# Altium schematic symbol library kmilo17pet-TI_LDO_400_7500.SchLib: 1409 symbols (part 12 of 60)
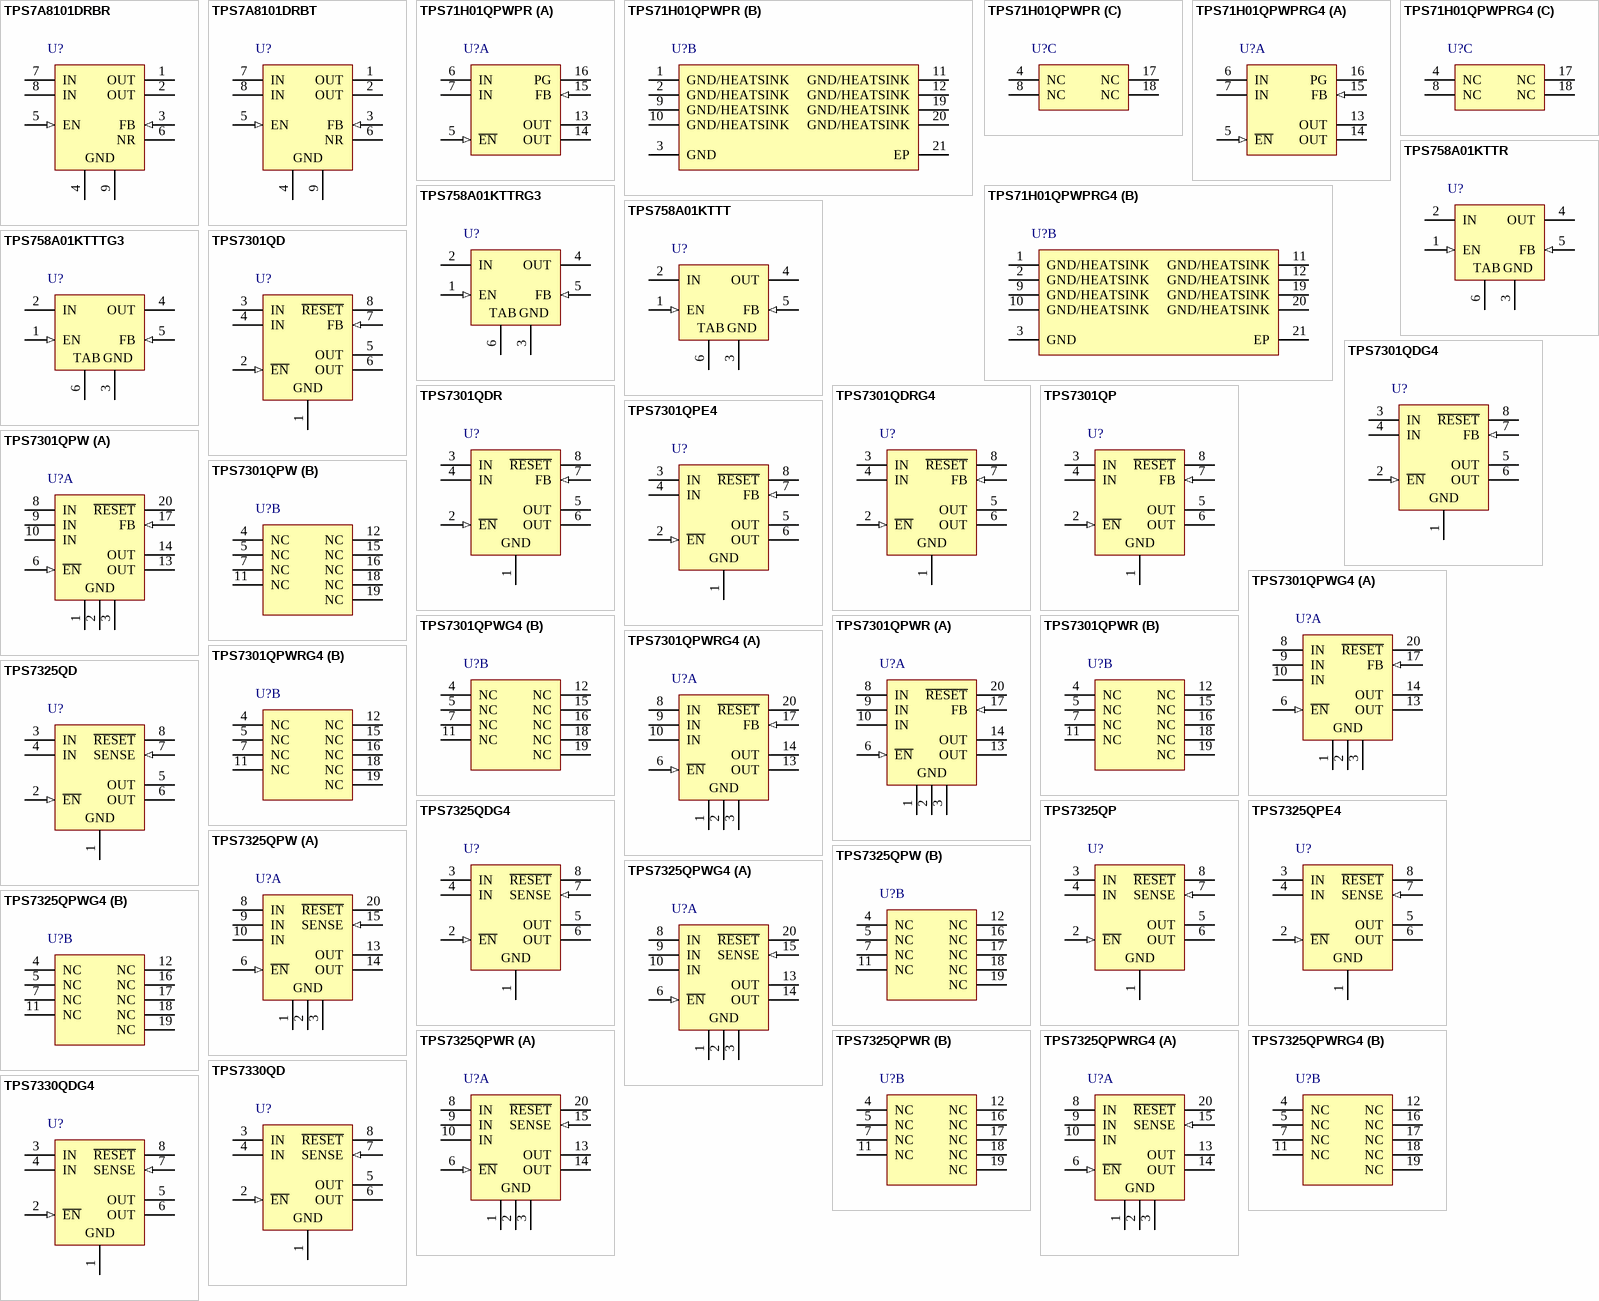
[diagram p61: symbols TPS7A8101DRBR to TPS7330QDG4]

## TPS758A01KTTT
designator U?
Single Output Fast Transient Response LDO, 3 A, Adjustable 1.24 to 5 V Output, 2.8 to 5.5 V Input, 5-pin DDPAK (KTT), -40 to 125 degC, Green (RoHS & no Sb/Br); Manufacturer: Texas Instruments; PartNumber: TPS758A01KTTT; Accuracy(%): 3; Iq(Typ)(mA): 0.12; Rating: Catalog; SubFamily: Single Channel LDO; Vdo(Typ)(mV): 150; Vin(Max)(V): 5.5; Vin(Min)(V): 2.8; Vout Adj(Max)(V): 5; Vout Adj(Min)(V): 1.24; DatasheetVersion: SLVS330F; PackageVersion: 4200577-3/F; PackageReference: KTT5; PackageDescription: 3-Pin Plastic Flange Mount, Body 10.16 x 10.34 mm, Pitch 1.7 mm; Supplier 1: Digi-Key; Supplier Part Number 1: TPS758A01KTTT-ND; Supplier 2: Newark; Supplier Part Number 2: 46M1173; Supplier 3: Mouser; Supplier Part Number 3: 595-TPS758A01KTTT; Eco-Plan: Green (RoHS & no Sb/Br); Iout(Max)(A): 3; Mounting Technology: Surface Mount; Code_JEDEC: TO-263; ComponentLink1Description: Manufacturer URL; ComponentLink1URL: http://www.ti.com/; ComponentLink2Description: Datasheet; ComponentLink2URL: http://www.ti.com/general/docs/lit/getliterature.tsp?genericPartNumber=TPS758A01&fileType=pdf; ComponentLink3Description: Package Specification; ComponentLink3URL: http://www.ti.com/litv/pdf/mpsf007e
footprint TI-KTT5_N (DPAK, 5-Leads, Body 10.16x8.925mm, Pitch 1.7mm, IPC Medium Density)
footprint TI-KTT5_L (DPAK, 5-Leads, Body 10.16x8.925mm, Pitch 1.7mm, IPC High Density)
footprint TI-KTT5_M (DPAK, 5-Leads, Body 10.16x8.925mm, Pitch 1.7mm, IPC Low Density)
pins: 1 EN (in) "Enable input", 2 IN (power) "Input supply", 3 GND (power) "Ground", 4 OUT (power) "Regulated output voltage; see Output Capacitor section for output capacitor requirements.", 5 FB (in) "Feedback voltage for adjustable device", 6 TAB (power)

## TPS758A01KTTTG3
designator U?
Single Output Fast Transient Response LDO, 3 A, Adjustable 1.24 to 5 V Output, 2.8 to 5.5 V Input, 5-pin DDPAK (KTT), -40 to 125 degC, Green (RoHS & no Sb/Br); Manufacturer: Texas Instruments; PartNumber: TPS758A01KTTTG3; Accuracy(%): 3; Iq(Typ)(mA): 0.12; Rating: Catalog; SubFamily: Single Channel LDO; Vdo(Typ)(mV): 150; Vin(Max)(V): 5.5; Vin(Min)(V): 2.8; Vout Adj(Max)(V): 5; Vout Adj(Min)(V): 1.24; DatasheetVersion: SLVS330F; PackageVersion: 4200577-3/F; PackageReference: KTT5; PackageDescription: 3-Pin Plastic Flange Mount, Body 10.16 x 10.34 mm, Pitch 1.7 mm; Supplier 1: Digi-Key; Supplier Part Number 1: TPS758A01KTTTG3-ND; Supplier 2: Mouser; Supplier Part Number 2: 595-TPS758A01KTTTG3; Eco-Plan: Green (RoHS & no Sb/Br); Iout(Max)(A): 3; Mounting Technology: Surface Mount; Code_JEDEC: TO-263; ComponentLink1Description: Manufacturer URL; ComponentLink1URL: http://www.ti.com/; ComponentLink2Description: Datasheet; ComponentLink2URL: http://www.ti.com/general/docs/lit/getliterature.tsp?genericPartNumber=TPS758A01&fileType=pdf; ComponentLink3Description: Package Specification; ComponentLink3URL: http://www.ti.com/litv/pdf/mpsf007e
footprint TI-KTT5_N (DPAK, 5-Leads, Body 10.16x8.925mm, Pitch 1.7mm, IPC Medium Density)
footprint TI-KTT5_L (DPAK, 5-Leads, Body 10.16x8.925mm, Pitch 1.7mm, IPC High Density)
footprint TI-KTT5_M (DPAK, 5-Leads, Body 10.16x8.925mm, Pitch 1.7mm, IPC Low Density)
pins: 1 EN (in) "Enable input", 2 IN (power) "Input supply", 3 GND (power) "Ground", 4 OUT (power) "Regulated output voltage; see Output Capacitor section for output capacitor requirements.", 5 FB (in) "Feedback voltage for adjustable device", 6 TAB (power)

## TPS7301QD
designator U?
Single Output LDO, 500 mA, Adjustable 1.2 to 9.7 V Output, 2.4 to 10 V Input, with Integrated SVS, 8-pin SOIC (D), -40 to 125 degC, Green (RoHS & no Sb/Br); Manufacturer: Texas Instruments; PartNumber: TPS7301QD; Iout(Max)(A): 0.5; Iq(Typ)(mA): 0.34; SubFamily: Single Channel LDO; Vdo(Typ)(mV): 270; Vin(Max)(V): 10; Vin(Min)(V): 2.4; Vout Adj(Max)(V): 9.7; Vout Adj(Min)(V): 1.2; DatasheetVersion: SLVS124F; PackageVersion: 4040047-3/M; PackageReference: D8; PackageDescription: 8-Pin Plastic Small Outline, Body 4.9 x 3.9 mm, Pitch 1.27 mm; Supplier 1: Digi-Key; Supplier Part Number 1: 296-1362-5-ND; Supplier 2: Farnell; Supplier Part Number 2: 8458294; Supplier 3: Newark; Supplier Part Number 3: 38K8786; Supplier 4: Newark; Supplier Part Number 4: 35K1337; Supplier 5: Mouser; Supplier Part Number 5: 595-TPS7301QD; Eco-Plan: Green (RoHS & no Sb/Br); Mounting Technology: Surface Mount; Code_JEDEC: MS-012; ComponentLink1Description: Manufacturer URL; ComponentLink1URL: http://www.ti.com/; ComponentLink2Description: Datasheet; ComponentLink2URL: http://www.ti.com/general/docs/lit/getliterature.tsp?genericPartNumber=TPS7301&fileType=pdf; ComponentLink3Description: Package Specification; ComponentLink3URL: http://www.ti.com/litv/pdf/msoi002j
footprint TI-D8_N (SOIC, 8-Leads, Body 4.9x3.9mm, Pitch 1.27mm, IPC Medium Density)
footprint TI-D8_L (SOIC, 8-Leads, Body 4.9x3.9mm, Pitch 1.27mm, IPC High Density)
footprint TI-D8_M (SOIC, 8-Leads, Body 4.9x3.9mm, Pitch 1.27mm, IPC Low Density)
pins: 1 GND (power), 2 ~{EN} (in), 3 IN (power), 4 IN (power), 5 OUT (power), 6 OUT (power), 7 FB (in), 8 ~{RESET} (hiz)

## TPS7301QDG4
designator U?
Single Output LDO, 500 mA, Adjustable 1.2 to 9.7 V Output, 2.4 to 10 V Input, with Integrated SVS, 8-pin SOIC (D), -40 to 125 degC, Green (RoHS & no Sb/Br); Manufacturer: Texas Instruments; PartNumber: TPS7301QDG4; Iout(Max)(A): 0.5; Iq(Typ)(mA): 0.34; SubFamily: Single Channel LDO; Vdo(Typ)(mV): 270; Vin(Max)(V): 10; Vin(Min)(V): 2.4; Vout Adj(Max)(V): 9.7; Vout Adj(Min)(V): 1.2; DatasheetVersion: SLVS124F; PackageVersion: 4040047-3/M; PackageReference: D8; PackageDescription: 8-Pin Plastic Small Outline, Body 4.9 x 3.9 mm, Pitch 1.27 mm; Supplier 1: Digi-Key; Supplier Part Number 1: TPS7301QDG4-ND; Supplier 2: Newark; Supplier Part Number 2: 54K1795; Supplier 3: Mouser; Supplier Part Number 3: 595-TPS7301QDG4; Eco-Plan: Green (RoHS & no Sb/Br); Mounting Technology: Surface Mount; Code_JEDEC: MS-012; ComponentLink1Description: Manufacturer URL; ComponentLink1URL: http://www.ti.com/; ComponentLink2Description: Datasheet; ComponentLink2URL: http://www.ti.com/general/docs/lit/getliterature.tsp?genericPartNumber=TPS7301&fileType=pdf; ComponentLink3Description: Package Specification; ComponentLink3URL: http://www.ti.com/litv/pdf/msoi002j
footprint TI-D8_N (SOIC, 8-Leads, Body 4.9x3.9mm, Pitch 1.27mm, IPC Medium Density)
footprint TI-D8_L (SOIC, 8-Leads, Body 4.9x3.9mm, Pitch 1.27mm, IPC High Density)
footprint TI-D8_M (SOIC, 8-Leads, Body 4.9x3.9mm, Pitch 1.27mm, IPC Low Density)
pins: 1 GND (power), 2 ~{EN} (in), 3 IN (power), 4 IN (power), 5 OUT (power), 6 OUT (power), 7 FB (in), 8 ~{RESET} (hiz)

## TPS7301QDR
designator U?
Single Output LDO, 500 mA, Adjustable 1.2 to 9.7 V Output, 2.4 to 10 V Input, with Integrated SVS, 8-pin SOIC (D), -40 to 125 degC, Green (RoHS & no Sb/Br); Manufacturer: Texas Instruments; PartNumber: TPS7301QDR; Iout(Max)(A): 0.5; Iq(Typ)(mA): 0.34; SubFamily: Single Channel LDO; Vdo(Typ)(mV): 270; Vin(Max)(V): 10; Vin(Min)(V): 2.4; Vout Adj(Max)(V): 9.7; Vout Adj(Min)(V): 1.2; DatasheetVersion: SLVS124F; PackageVersion: 4040047-3/M; PackageReference: D8; PackageDescription: 8-Pin Plastic Small Outline, Body 4.9 x 3.9 mm, Pitch 1.27 mm; Supplier 1: Digi-Key; Supplier Part Number 1: 296-1362-2-ND; Supplier 2: Digi-Key; Supplier Part Number 2: 296-1362-1-ND; Supplier 3: Digi-Key; Supplier Part Number 3: 296-1362-6-ND; Supplier 4: Newark; Supplier Part Number 4: 35C2221; Supplier 5: Mouser; Supplier Part Number 5: 595-TPS7301QDR; Eco-Plan: Green (RoHS & no Sb/Br); Mounting Technology: Surface Mount; Code_JEDEC: MS-012; ComponentLink1Description: Manufacturer URL; ComponentLink1URL: http://www.ti.com/; ComponentLink2Description: Datasheet; ComponentLink2URL: http://www.ti.com/general/docs/lit/getliterature.tsp?genericPartNumber=TPS7301&fileType=pdf; ComponentLink3Description: Package Specification; ComponentLink3URL: http://www.ti.com/litv/pdf/msoi002j
footprint TI-D8_N (SOIC, 8-Leads, Body 4.9x3.9mm, Pitch 1.27mm, IPC Medium Density)
footprint TI-D8_L (SOIC, 8-Leads, Body 4.9x3.9mm, Pitch 1.27mm, IPC High Density)
footprint TI-D8_M (SOIC, 8-Leads, Body 4.9x3.9mm, Pitch 1.27mm, IPC Low Density)
pins: 1 GND (power), 2 ~{EN} (in), 3 IN (power), 4 IN (power), 5 OUT (power), 6 OUT (power), 7 FB (in), 8 ~{RESET} (hiz)

## TPS7301QDRG4
designator U?
Single Output LDO, 500 mA, Adjustable 1.2 to 9.7 V Output, 2.4 to 10 V Input, with Integrated SVS, 8-pin SOIC (D), -40 to 125 degC, Green (RoHS & no Sb/Br); Manufacturer: Texas Instruments; PartNumber: TPS7301QDRG4; Iout(Max)(A): 0.5; Iq(Typ)(mA): 0.34; SubFamily: Single Channel LDO; Vdo(Typ)(mV): 270; Vin(Max)(V): 10; Vin(Min)(V): 2.4; Vout Adj(Max)(V): 9.7; Vout Adj(Min)(V): 1.2; DatasheetVersion: SLVS124F; PackageVersion: 4040047-3/M; PackageReference: D8; PackageDescription: 8-Pin Plastic Small Outline, Body 4.9 x 3.9 mm, Pitch 1.27 mm; Supplier 1: Digi-Key; Supplier Part Number 1: TPS7301QDRG4-ND; Supplier 2: Newark; Supplier Part Number 2: 54K1796; Supplier 3: Mouser; Supplier Part Number 3: 595-TPS7301QDRG4; Eco-Plan: Green (RoHS & no Sb/Br); Mounting Technology: Surface Mount; Code_JEDEC: MS-012; ComponentLink1Description: Manufacturer URL; ComponentLink1URL: http://www.ti.com/; ComponentLink2Description: Datasheet; ComponentLink2URL: http://www.ti.com/general/docs/lit/getliterature.tsp?genericPartNumber=TPS7301&fileType=pdf; ComponentLink3Description: Package Specification; ComponentLink3URL: http://www.ti.com/litv/pdf/msoi002j
footprint TI-D8_N (SOIC, 8-Leads, Body 4.9x3.9mm, Pitch 1.27mm, IPC Medium Density)
footprint TI-D8_L (SOIC, 8-Leads, Body 4.9x3.9mm, Pitch 1.27mm, IPC High Density)
footprint TI-D8_M (SOIC, 8-Leads, Body 4.9x3.9mm, Pitch 1.27mm, IPC Low Density)
pins: 1 GND (power), 2 ~{EN} (in), 3 IN (power), 4 IN (power), 5 OUT (power), 6 OUT (power), 7 FB (in), 8 ~{RESET} (hiz)

## TPS7301QP
designator U?
Single Output LDO, 500 mA, Adjustable 1.2 to 9.7 V Output, 2.4 to 10 V Input, with Integrated SVS, 8-pin PDIP (P), -40 to 125 degC, Pb-Free (RoHS); Manufacturer: Texas Instruments; PartNumber: TPS7301QP; Iout(Max)(A): 0.5; Iq(Typ)(mA): 0.34; SubFamily: Single Channel LDO; Vdo(Typ)(mV): 270; Vin(Max)(V): 10; Vin(Min)(V): 2.4; Vout Adj(Max)(V): 9.7; Vout Adj(Min)(V): 1.2; DatasheetVersion: SLVS124F; PackageVersion: 4040082/E; PackageReference: P8; PackageDescription: 8-Pin Plastic In-Line, Body 9.59 x 6.35 mm, 2.54 mm Pitch; Supplier 1: Digi-Key; Supplier Part Number 1: 296-2660-5-ND; Supplier 2: Newark; Supplier Part Number 2: 35K1338; Supplier 3: Mouser; Supplier Part Number 3: 595-TPS7301QP; Eco-Plan: Pb-Free (RoHS); Mounting Technology: Through Hole; Code_JEDEC: MS-001; ComponentLink1Description: Manufacturer URL; ComponentLink1URL: http://www.ti.com/; ComponentLink2Description: Datasheet; ComponentLink2URL: http://www.ti.com/general/docs/lit/getliterature.tsp?genericPartNumber=TPS7301&fileType=pdf; ComponentLink3Description: Package Specification; ComponentLink3URL: http://www.ti.com/litv/pdf/mpdi001b
footprint TI-P8 (DIP, 8-Leads, Body 9.59x6.35mm, Pitch 2.54mm)
pins: 1 GND (power), 2 ~{EN} (in), 3 IN (power), 4 IN (power), 5 OUT (power), 6 OUT (power), 7 FB (in), 8 ~{RESET} (hiz)

## TPS7301QPE4
designator U?
Single Output LDO, 500 mA, Adjustable 1.2 to 9.7 V Output, 2.4 to 10 V Input, with Integrated SVS, 8-pin PDIP (P), -40 to 125 degC, Pb-Free (RoHS); Manufacturer: Texas Instruments; PartNumber: TPS7301QPE4; Iout(Max)(A): 0.5; Iq(Typ)(mA): 0.34; SubFamily: Single Channel LDO; Vdo(Typ)(mV): 270; Vin(Max)(V): 10; Vin(Min)(V): 2.4; Vout Adj(Max)(V): 9.7; Vout Adj(Min)(V): 1.2; DatasheetVersion: SLVS124F; PackageVersion: 4040082/E; PackageReference: P8; PackageDescription: 8-Pin Plastic In-Line, Body 9.59 x 6.35 mm, 2.54 mm Pitch; Supplier 1: Digi-Key; Supplier Part Number 1: TPS7301QPE4-ND; Supplier 2: Mouser; Supplier Part Number 2: 595-TPS7301QPE4; Eco-Plan: Pb-Free (RoHS); Mounting Technology: Through Hole; Code_JEDEC: MS-001; ComponentLink1Description: Manufacturer URL; ComponentLink1URL: http://www.ti.com/; ComponentLink2Description: Datasheet; ComponentLink2URL: http://www.ti.com/general/docs/lit/getliterature.tsp?genericPartNumber=TPS7301&fileType=pdf; ComponentLink3Description: Package Specification; ComponentLink3URL: http://www.ti.com/litv/pdf/mpdi001b
footprint TI-P8 (DIP, 8-Leads, Body 9.59x6.35mm, Pitch 2.54mm)
pins: 1 GND (power), 2 ~{EN} (in), 3 IN (power), 4 IN (power), 5 OUT (power), 6 OUT (power), 7 FB (in), 8 ~{RESET} (hiz)

## TPS7301QPW
designator U?
Single Output LDO, 500 mA, Adjustable 1.2 to 9.7 V Output, 2.4 to 10 V Input, with Integrated SVS, 20-pin TSSOP (PW), -40 to 125 degC, Green (RoHS & no Sb/Br); Manufacturer: Texas Instruments; PartNumber: TPS7301QPW; Iout(Max)(A): 0.5; Iq(Typ)(mA): 0.34; SubFamily: Single Channel LDO; Vdo(Typ)(mV): 270; Vin(Max)(V): 10; Vin(Min)(V): 2.4; Vout Adj(Max)(V): 9.7; Vout Adj(Min)(V): 1.2; DatasheetVersion: SLVS124F; PackageVersion: 4040064-5/G; PackageReference: PW20; PackageDescription: 20-Pin Plastic Small Outline, Body 6.5 x 4.4 mm, 0.65 mm Pitch; Supplier 1: Digi-Key; Supplier Part Number 1: 296-8061-5-ND; Supplier 2: Mouser; Supplier Part Number 2: 595-TPS7301QPW; Eco-Plan: Green (RoHS & no Sb/Br); Mounting Technology: Surface Mount; Code_JEDEC: MO-153; ComponentLink1Description: Manufacturer URL; ComponentLink1URL: http://www.ti.com/; ComponentLink2Description: Datasheet; ComponentLink2URL: http://www.ti.com/general/docs/lit/getliterature.tsp?genericPartNumber=TPS7301&fileType=pdf; ComponentLink3Description: Package Specification; ComponentLink3URL: http://www.ti.com.cn/cn/lit/ml/mpds362/mpds362.pdf
footprint TI-PW20_N (SOP, 20-Leads, Body 6.5x4.4mm, Pitch 0.65mm, IPC Medium Density)
footprint TI-PW20_L (SOP, 20-Leads, Body 6.5x4.4mm, Pitch 0.65mm, IPC High Density)
footprint TI-PW20_M (SOP, 20-Leads, Body 6.5x4.4mm, Pitch 0.65mm, IPC Low Density)
part A pins: 1 GND (power), 2 GND (power), 3 GND (power), 6 ~{EN} (in), 8 IN (power), 9 IN (power), 10 IN (power), 13 OUT (power), 14 OUT (power), 17 FB (in), 20 ~{RESET} (hiz)
part B pins: 4 NC, 5 NC, 7 NC, 11 NC, 12 NC, 15 NC, 16 NC, 18 NC, 19 NC

## TPS7301QPWG4
designator U?
Single Output LDO, 500 mA, Adjustable 1.2 to 9.7 V Output, 2.4 to 10 V Input, with Integrated SVS, 20-pin TSSOP (PW), -40 to 125 degC, Green (RoHS & no Sb/Br); Manufacturer: Texas Instruments; PartNumber: TPS7301QPWG4; Iout(Max)(A): 0.5; Iq(Typ)(mA): 0.34; SubFamily: Single Channel LDO; Vdo(Typ)(mV): 270; Vin(Max)(V): 10; Vin(Min)(V): 2.4; Vout Adj(Max)(V): 9.7; Vout Adj(Min)(V): 1.2; DatasheetVersion: SLVS124F; PackageVersion: 4040064-5/G; PackageReference: PW20; PackageDescription: 20-Pin Plastic Small Outline, Body 6.5 x 4.4 mm, 0.65 mm Pitch; Supplier 1: Digi-Key; Supplier Part Number 1: TPS7301QPWG4-ND; Supplier 2: Mouser; Supplier Part Number 2: 595-TPS7301QPWG4; Eco-Plan: Green (RoHS & no Sb/Br); Mounting Technology: Surface Mount; Code_JEDEC: MO-153; ComponentLink1Description: Manufacturer URL; ComponentLink1URL: http://www.ti.com/; ComponentLink2Description: Datasheet; ComponentLink2URL: http://www.ti.com/general/docs/lit/getliterature.tsp?genericPartNumber=TPS7301&fileType=pdf; ComponentLink3Description: Package Specification; ComponentLink3URL: http://www.ti.com.cn/cn/lit/ml/mpds362/mpds362.pdf
footprint TI-PW20_N (SOP, 20-Leads, Body 6.5x4.4mm, Pitch 0.65mm, IPC Medium Density)
footprint TI-PW20_L (SOP, 20-Leads, Body 6.5x4.4mm, Pitch 0.65mm, IPC High Density)
footprint TI-PW20_M (SOP, 20-Leads, Body 6.5x4.4mm, Pitch 0.65mm, IPC Low Density)
part A pins: 1 GND (power), 2 GND (power), 3 GND (power), 6 ~{EN} (in), 8 IN (power), 9 IN (power), 10 IN (power), 13 OUT (power), 14 OUT (power), 17 FB (in), 20 ~{RESET} (hiz)
part B pins: 4 NC, 5 NC, 7 NC, 11 NC, 12 NC, 15 NC, 16 NC, 18 NC, 19 NC

## TPS7301QPWR
designator U?
Single Output LDO, 500 mA, Adjustable 1.2 to 9.7 V Output, 2.4 to 10 V Input, with Integrated SVS, 20-pin TSSOP (PW), -40 to 125 degC, Green (RoHS & no Sb/Br); Manufacturer: Texas Instruments; PartNumber: TPS7301QPWR; Iout(Max)(A): 0.5; Iq(Typ)(mA): 0.34; SubFamily: Single Channel LDO; Vdo(Typ)(mV): 270; Vin(Max)(V): 10; Vin(Min)(V): 2.4; Vout Adj(Max)(V): 9.7; Vout Adj(Min)(V): 1.2; DatasheetVersion: SLVS124F; PackageVersion: 4040064-5/G; PackageReference: PW20; PackageDescription: 20-Pin Plastic Small Outline, Body 6.5 x 4.4 mm, 0.65 mm Pitch; Supplier 1: Digi-Key; Supplier Part Number 1: TPS7301QPWR-ND; Supplier 2: Mouser; Supplier Part Number 2: 595-TPS7301QPWR; Eco-Plan: Green (RoHS & no Sb/Br); Mounting Technology: Surface Mount; Code_JEDEC: MO-153; ComponentLink1Description: Manufacturer URL; ComponentLink1URL: http://www.ti.com/; ComponentLink2Description: Datasheet; ComponentLink2URL: http://www.ti.com/general/docs/lit/getliterature.tsp?genericPartNumber=TPS7301&fileType=pdf; ComponentLink3Description: Package Specification; ComponentLink3URL: http://www.ti.com.cn/cn/lit/ml/mpds362/mpds362.pdf
footprint TI-PW20_N (SOP, 20-Leads, Body 6.5x4.4mm, Pitch 0.65mm, IPC Medium Density)
footprint TI-PW20_L (SOP, 20-Leads, Body 6.5x4.4mm, Pitch 0.65mm, IPC High Density)
footprint TI-PW20_M (SOP, 20-Leads, Body 6.5x4.4mm, Pitch 0.65mm, IPC Low Density)
part A pins: 1 GND (power), 2 GND (power), 3 GND (power), 6 ~{EN} (in), 8 IN (power), 9 IN (power), 10 IN (power), 13 OUT (power), 14 OUT (power), 17 FB (in), 20 ~{RESET} (hiz)
part B pins: 4 NC, 5 NC, 7 NC, 11 NC, 12 NC, 15 NC, 16 NC, 18 NC, 19 NC

## TPS7301QPWRG4
designator U?
Single Output LDO, 500 mA, Adjustable 1.2 to 9.7 V Output, 2.4 to 10 V Input, with Integrated SVS, 20-pin TSSOP (PW), -40 to 125 degC, Green (RoHS & no Sb/Br); Manufacturer: Texas Instruments; PartNumber: TPS7301QPWRG4; Iout(Max)(A): 0.5; Iq(Typ)(mA): 0.34; SubFamily: Single Channel LDO; Vdo(Typ)(mV): 270; Vin(Max)(V): 10; Vin(Min)(V): 2.4; Vout Adj(Max)(V): 9.7; Vout Adj(Min)(V): 1.2; DatasheetVersion: SLVS124F; PackageVersion: 4040064-5/G; PackageReference: PW20; PackageDescription: 20-Pin Plastic Small Outline, Body 6.5 x 4.4 mm, 0.65 mm Pitch; Supplier 1: Digi-Key; Supplier Part Number 1: TPS7301QPWRG4-ND; Supplier 2: Mouser; Supplier Part Number 2: 595-TPS7301QPWRG4; Eco-Plan: Green (RoHS & no Sb/Br); Mounting Technology: Surface Mount; Code_JEDEC: MO-153; ComponentLink1Description: Manufacturer URL; ComponentLink1URL: http://www.ti.com/; ComponentLink2Description: Datasheet; ComponentLink2URL: http://www.ti.com/general/docs/lit/getliterature.tsp?genericPartNumber=TPS7301&fileType=pdf; ComponentLink3Description: Package Specification; ComponentLink3URL: http://www.ti.com.cn/cn/lit/ml/mpds362/mpds362.pdf
footprint TI-PW20_N (SOP, 20-Leads, Body 6.5x4.4mm, Pitch 0.65mm, IPC Medium Density)
footprint TI-PW20_L (SOP, 20-Leads, Body 6.5x4.4mm, Pitch 0.65mm, IPC High Density)
footprint TI-PW20_M (SOP, 20-Leads, Body 6.5x4.4mm, Pitch 0.65mm, IPC Low Density)
part A pins: 1 GND (power), 2 GND (power), 3 GND (power), 6 ~{EN} (in), 8 IN (power), 9 IN (power), 10 IN (power), 13 OUT (power), 14 OUT (power), 17 FB (in), 20 ~{RESET} (hiz)
part B pins: 4 NC, 5 NC, 7 NC, 11 NC, 12 NC, 15 NC, 16 NC, 18 NC, 19 NC

## TPS7325QD
designator U?
Single Output LDO, 500 mA, Fixed 2.5 V Output, 3.1 to 10 V Input, with Integrated SVS, 8-pin SOIC (D), -40 to 125 degC, Green (RoHS & no Sb/Br); Manufacturer: Texas Instruments; PartNumber: TPS7325QD; Fixed Output Options(V): 2.5; Iout(Max)(A): 0.5; Iq(Typ)(mA): 0.3; SubFamily: Single Channel LDO; Vdo(Typ)(mV): 270; Vin(Max)(V): 10; Vin(Min)(V): 3.1; DatasheetVersion: SLVS124F; PackageVersion: 4040047-3/M; PackageReference: D8; PackageDescription: 8-Pin Plastic Small Outline, Body 4.9 x 3.9 mm, Pitch 1.27 mm; Supplier 1: Digi-Key; Supplier Part Number 1: 296-2661-5-ND; Supplier 2: Mouser; Supplier Part Number 2: 595-TPS7325QD; Eco-Plan: Green (RoHS & no Sb/Br); Vout Adj(Max)(V): 2.5; Vout Adj(Min)(V): 2.5; Mounting Technology: Surface Mount; Code_JEDEC: MS-012; ComponentLink1Description: Manufacturer URL; ComponentLink1URL: http://www.ti.com/; ComponentLink2Description: Datasheet; ComponentLink2URL: http://www.ti.com/general/docs/lit/getliterature.tsp?genericPartNumber=TPS7325&fileType=pdf; ComponentLink3Description: Package Specification; ComponentLink3URL: http://www.ti.com/litv/pdf/msoi002j
footprint TI-D8_N (SOIC, 8-Leads, Body 4.9x3.9mm, Pitch 1.27mm, IPC Medium Density)
footprint TI-D8_L (SOIC, 8-Leads, Body 4.9x3.9mm, Pitch 1.27mm, IPC High Density)
footprint TI-D8_M (SOIC, 8-Leads, Body 4.9x3.9mm, Pitch 1.27mm, IPC Low Density)
pins: 1 GND (power), 2 ~{EN} (in), 3 IN (power), 4 IN (power), 5 OUT (power), 6 OUT (power), 7 SENSE (in), 8 ~{RESET} (hiz)

## TPS7325QDG4
designator U?
Single Output LDO, 500 mA, Fixed 2.5 V Output, 3.1 to 10 V Input, with Integrated SVS, 8-pin SOIC (D), -40 to 125 degC, Green (RoHS & no Sb/Br); Manufacturer: Texas Instruments; PartNumber: TPS7325QDG4; Fixed Output Options(V): 2.5; Iout(Max)(A): 0.5; Iq(Typ)(mA): 0.3; SubFamily: Single Channel LDO; Vdo(Typ)(mV): 270; Vin(Max)(V): 10; Vin(Min)(V): 3.1; DatasheetVersion: SLVS124F; PackageVersion: 4040047-3/M; PackageReference: D8; PackageDescription: 8-Pin Plastic Small Outline, Body 4.9 x 3.9 mm, Pitch 1.27 mm; Supplier 1: Digi-Key; Supplier Part Number 1: TPS7325QDG4-ND; Supplier 2: Newark; Supplier Part Number 2: 27M1105; Supplier 3: Mouser; Supplier Part Number 3: 595-TPS7325QDG4; Eco-Plan: Green (RoHS & no Sb/Br); Vout Adj(Max)(V): 2.5; Vout Adj(Min)(V): 2.5; Mounting Technology: Surface Mount; Code_JEDEC: MS-012; ComponentLink1Description: Manufacturer URL; ComponentLink1URL: http://www.ti.com/; ComponentLink2Description: Datasheet; ComponentLink2URL: http://www.ti.com/general/docs/lit/getliterature.tsp?genericPartNumber=TPS7325&fileType=pdf; ComponentLink3Description: Package Specification; ComponentLink3URL: http://www.ti.com/litv/pdf/msoi002j
footprint TI-D8_N (SOIC, 8-Leads, Body 4.9x3.9mm, Pitch 1.27mm, IPC Medium Density)
footprint TI-D8_L (SOIC, 8-Leads, Body 4.9x3.9mm, Pitch 1.27mm, IPC High Density)
footprint TI-D8_M (SOIC, 8-Leads, Body 4.9x3.9mm, Pitch 1.27mm, IPC Low Density)
pins: 1 GND (power), 2 ~{EN} (in), 3 IN (power), 4 IN (power), 5 OUT (power), 6 OUT (power), 7 SENSE (in), 8 ~{RESET} (hiz)

## TPS7325QP
designator U?
Single Output LDO, 500 mA, Fixed 2.5 V Output, 3.1 to 10 V Input, with Integrated SVS, 8-pin PDIP (P), -40 to 125 degC, Pb-Free (RoHS); Manufacturer: Texas Instruments; PartNumber: TPS7325QP; Fixed Output Options(V): 2.5; Iout(Max)(A): 0.5; Iq(Typ)(mA): 0.3; SubFamily: Single Channel LDO; Vdo(Typ)(mV): 270; Vin(Max)(V): 10; Vin(Min)(V): 3.1; DatasheetVersion: SLVS124F; PackageVersion: 4040082/E; PackageReference: P8; PackageDescription: 8-Pin Plastic In-Line, Body 9.59 x 6.35 mm, 2.54 mm Pitch; Supplier 1: Digi-Key; Supplier Part Number 1: 296-8062-5-ND; Supplier 2: Mouser; Supplier Part Number 2: 595-TPS7325QP; Eco-Plan: Pb-Free (RoHS); Vout Adj(Max)(V): 2.5; Vout Adj(Min)(V): 2.5; Mounting Technology: Through Hole; Code_JEDEC: MS-001; ComponentLink1Description: Manufacturer URL; ComponentLink1URL: http://www.ti.com/; ComponentLink2Description: Datasheet; ComponentLink2URL: http://www.ti.com/general/docs/lit/getliterature.tsp?genericPartNumber=TPS7325&fileType=pdf; ComponentLink3Description: Package Specification; ComponentLink3URL: http://www.ti.com/litv/pdf/mpdi001b
footprint TI-P8 (DIP, 8-Leads, Body 9.59x6.35mm, Pitch 2.54mm)
pins: 1 GND (power), 2 ~{EN} (in), 3 IN (power), 4 IN (power), 5 OUT (power), 6 OUT (power), 7 SENSE (in), 8 ~{RESET} (hiz)

## TPS7325QPE4
designator U?
Single Output LDO, 500 mA, Fixed 2.5 V Output, 3.1 to 10 V Input, with Integrated SVS, 8-pin PDIP (P), -40 to 125 degC, Pb-Free (RoHS); Manufacturer: Texas Instruments; PartNumber: TPS7325QPE4; Fixed Output Options(V): 2.5; Iout(Max)(A): 0.5; Iq(Typ)(mA): 0.3; SubFamily: Single Channel LDO; Vdo(Typ)(mV): 270; Vin(Max)(V): 10; Vin(Min)(V): 3.1; DatasheetVersion: SLVS124F; PackageVersion: 4040082/E; PackageReference: P8; PackageDescription: 8-Pin Plastic In-Line, Body 9.59 x 6.35 mm, 2.54 mm Pitch; Supplier 1: Digi-Key; Supplier Part Number 1: TPS7325QPE4-ND; Supplier 2: Mouser; Supplier Part Number 2: 595-TPS7325QPE4; Eco-Plan: Pb-Free (RoHS); Vout Adj(Max)(V): 2.5; Vout Adj(Min)(V): 2.5; Mounting Technology: Through Hole; Code_JEDEC: MS-001; ComponentLink1Description: Manufacturer URL; ComponentLink1URL: http://www.ti.com/; ComponentLink2Description: Datasheet; ComponentLink2URL: http://www.ti.com/general/docs/lit/getliterature.tsp?genericPartNumber=TPS7325&fileType=pdf; ComponentLink3Description: Package Specification; ComponentLink3URL: http://www.ti.com/litv/pdf/mpdi001b
footprint TI-P8 (DIP, 8-Leads, Body 9.59x6.35mm, Pitch 2.54mm)
pins: 1 GND (power), 2 ~{EN} (in), 3 IN (power), 4 IN (power), 5 OUT (power), 6 OUT (power), 7 SENSE (in), 8 ~{RESET} (hiz)

## TPS7325QPW
designator U?
Single Output LDO, 500 mA, Fixed 2.5 V Output, 3.1 to 10 V Input, with Integrated SVS, 20-pin TSSOP (PW), -40 to 125 degC, Green (RoHS & no Sb/Br); Manufacturer: Texas Instruments; PartNumber: TPS7325QPW; Fixed Output Options(V): 2.5; Iout(Max)(A): 0.5; Iq(Typ)(mA): 0.3; SubFamily: Single Channel LDO; Vdo(Typ)(mV): 270; Vin(Max)(V): 10; Vin(Min)(V): 3.1; DatasheetVersion: SLVS124F; PackageVersion: 4040064-5/G; PackageReference: PW20; PackageDescription: 20-Pin Plastic Small Outline, Body 6.5 x 4.4 mm, 0.65 mm Pitch; Supplier 1: Digi-Key; Supplier Part Number 1: 296-34646-5-ND; Supplier 2: Mouser; Supplier Part Number 2: 595-TPS7325QPW; Eco-Plan: Green (RoHS & no Sb/Br); Vout Adj(Max)(V): 2.5; Vout Adj(Min)(V): 2.5; Mounting Technology: Surface Mount; Code_JEDEC: MO-153; ComponentLink1Description: Manufacturer URL; ComponentLink1URL: http://www.ti.com/; ComponentLink2Description: Datasheet; ComponentLink2URL: http://www.ti.com/general/docs/lit/getliterature.tsp?genericPartNumber=TPS7325&fileType=pdf; ComponentLink3Description: Package Specification; ComponentLink3URL: http://www.ti.com.cn/cn/lit/ml/mpds362/mpds362.pdf
footprint TI-PW20_N (SOP, 20-Leads, Body 6.5x4.4mm, Pitch 0.65mm, IPC Medium Density)
footprint TI-PW20_L (SOP, 20-Leads, Body 6.5x4.4mm, Pitch 0.65mm, IPC High Density)
footprint TI-PW20_M (SOP, 20-Leads, Body 6.5x4.4mm, Pitch 0.65mm, IPC Low Density)
part A pins: 1 GND (power), 2 GND (power), 3 GND (power), 6 ~{EN} (in), 8 IN (power), 9 IN (power), 10 IN (power), 13 OUT (power), 14 OUT (power), 15 SENSE (in), 20 ~{RESET} (hiz)
part B pins: 4 NC, 5 NC, 7 NC, 11 NC, 12 NC, 16 NC, 17 NC, 18 NC, 19 NC

## TPS7325QPWG4
designator U?
Single Output LDO, 500 mA, Fixed 2.5 V Output, 3.1 to 10 V Input, with Integrated SVS, 20-pin TSSOP (PW), -40 to 125 degC, Green (RoHS & no Sb/Br); Manufacturer: Texas Instruments; PartNumber: TPS7325QPWG4; Fixed Output Options(V): 2.5; Iout(Max)(A): 0.5; Iq(Typ)(mA): 0.3; SubFamily: Single Channel LDO; Vdo(Typ)(mV): 270; Vin(Max)(V): 10; Vin(Min)(V): 3.1; DatasheetVersion: SLVS124F; PackageVersion: 4040064-5/G; PackageReference: PW20; PackageDescription: 20-Pin Plastic Small Outline, Body 6.5 x 4.4 mm, 0.65 mm Pitch; Supplier 1: Digi-Key; Supplier Part Number 1: TPS7325QPWG4-ND; Supplier 2: Mouser; Supplier Part Number 2: 595-TPS7325QPWG4; Eco-Plan: Green (RoHS & no Sb/Br); Vout Adj(Max)(V): 2.5; Vout Adj(Min)(V): 2.5; Mounting Technology: Surface Mount; Code_JEDEC: MO-153; ComponentLink1Description: Manufacturer URL; ComponentLink1URL: http://www.ti.com/; ComponentLink2Description: Datasheet; ComponentLink2URL: http://www.ti.com/general/docs/lit/getliterature.tsp?genericPartNumber=TPS7325&fileType=pdf; ComponentLink3Description: Package Specification; ComponentLink3URL: http://www.ti.com.cn/cn/lit/ml/mpds362/mpds362.pdf
footprint TI-PW20_N (SOP, 20-Leads, Body 6.5x4.4mm, Pitch 0.65mm, IPC Medium Density)
footprint TI-PW20_L (SOP, 20-Leads, Body 6.5x4.4mm, Pitch 0.65mm, IPC High Density)
footprint TI-PW20_M (SOP, 20-Leads, Body 6.5x4.4mm, Pitch 0.65mm, IPC Low Density)
part A pins: 1 GND (power), 2 GND (power), 3 GND (power), 6 ~{EN} (in), 8 IN (power), 9 IN (power), 10 IN (power), 13 OUT (power), 14 OUT (power), 15 SENSE (in), 20 ~{RESET} (hiz)
part B pins: 4 NC, 5 NC, 7 NC, 11 NC, 12 NC, 16 NC, 17 NC, 18 NC, 19 NC

## TPS7325QPWR
designator U?
Single Output LDO, 500 mA, Fixed 2.5 V Output, 3.1 to 10 V Input, with Integrated SVS, 20-pin TSSOP (PW), -40 to 125 degC, Green (RoHS & no Sb/Br); Manufacturer: Texas Instruments; PartNumber: TPS7325QPWR; Fixed Output Options(V): 2.5; Iout(Max)(A): 0.5; Iq(Typ)(mA): 0.3; SubFamily: Single Channel LDO; Vdo(Typ)(mV): 270; Vin(Max)(V): 10; Vin(Min)(V): 3.1; DatasheetVersion: SLVS124F; PackageVersion: 4040064-5/G; PackageReference: PW20; PackageDescription: 20-Pin Plastic Small Outline, Body 6.5 x 4.4 mm, 0.65 mm Pitch; Supplier 1: Digi-Key; Supplier Part Number 1: 296-8063-2-ND; Supplier 2: Digi-Key; Supplier Part Number 2: 296-8063-1-ND; Supplier 3: Digi-Key; Supplier Part Number 3: 296-8063-6-ND; Supplier 4: Mouser; Supplier Part Number 4: 595-TPS7325QPWR; Eco-Plan: Green (RoHS & no Sb/Br); Vout Adj(Max)(V): 2.5; Vout Adj(Min)(V): 2.5; Mounting Technology: Surface Mount; Code_JEDEC: MO-153; ComponentLink1Description: Manufacturer URL; ComponentLink1URL: http://www.ti.com/; ComponentLink2Description: Datasheet; ComponentLink2URL: http://www.ti.com/general/docs/lit/getliterature.tsp?genericPartNumber=TPS7325&fileType=pdf; ComponentLink3Description: Package Specification; ComponentLink3URL: http://www.ti.com.cn/cn/lit/ml/mpds362/mpds362.pdf
footprint TI-PW20_N (SOP, 20-Leads, Body 6.5x4.4mm, Pitch 0.65mm, IPC Medium Density)
footprint TI-PW20_L (SOP, 20-Leads, Body 6.5x4.4mm, Pitch 0.65mm, IPC High Density)
footprint TI-PW20_M (SOP, 20-Leads, Body 6.5x4.4mm, Pitch 0.65mm, IPC Low Density)
part A pins: 1 GND (power), 2 GND (power), 3 GND (power), 6 ~{EN} (in), 8 IN (power), 9 IN (power), 10 IN (power), 13 OUT (power), 14 OUT (power), 15 SENSE (in), 20 ~{RESET} (hiz)
part B pins: 4 NC, 5 NC, 7 NC, 11 NC, 12 NC, 16 NC, 17 NC, 18 NC, 19 NC

## TPS7325QPWRG4
designator U?
Single Output LDO, 500 mA, Fixed 2.5 V Output, 3.1 to 10 V Input, with Integrated SVS, 20-pin TSSOP (PW), -40 to 125 degC, Green (RoHS & no Sb/Br); Manufacturer: Texas Instruments; PartNumber: TPS7325QPWRG4; Fixed Output Options(V): 2.5; Iout(Max)(A): 0.5; Iq(Typ)(mA): 0.3; SubFamily: Single Channel LDO; Vdo(Typ)(mV): 270; Vin(Max)(V): 10; Vin(Min)(V): 3.1; DatasheetVersion: SLVS124F; PackageVersion: 4040064-5/G; PackageReference: PW20; PackageDescription: 20-Pin Plastic Small Outline, Body 6.5 x 4.4 mm, 0.65 mm Pitch; Supplier 1: Digi-Key; Supplier Part Number 1: TPS7325QPWRG4-ND; Supplier 2: Mouser; Supplier Part Number 2: 595-TPS7325QPWRG4; Eco-Plan: Green (RoHS & no Sb/Br); Vout Adj(Max)(V): 2.5; Vout Adj(Min)(V): 2.5; Mounting Technology: Surface Mount; Code_JEDEC: MO-153; ComponentLink1Description: Manufacturer URL; ComponentLink1URL: http://www.ti.com/; ComponentLink2Description: Datasheet; ComponentLink2URL: http://www.ti.com/general/docs/lit/getliterature.tsp?genericPartNumber=TPS7325&fileType=pdf; ComponentLink3Description: Package Specification; ComponentLink3URL: http://www.ti.com.cn/cn/lit/ml/mpds362/mpds362.pdf
footprint TI-PW20_N (SOP, 20-Leads, Body 6.5x4.4mm, Pitch 0.65mm, IPC Medium Density)
footprint TI-PW20_L (SOP, 20-Leads, Body 6.5x4.4mm, Pitch 0.65mm, IPC High Density)
footprint TI-PW20_M (SOP, 20-Leads, Body 6.5x4.4mm, Pitch 0.65mm, IPC Low Density)
part A pins: 1 GND (power), 2 GND (power), 3 GND (power), 6 ~{EN} (in), 8 IN (power), 9 IN (power), 10 IN (power), 13 OUT (power), 14 OUT (power), 15 SENSE (in), 20 ~{RESET} (hiz)
part B pins: 4 NC, 5 NC, 7 NC, 11 NC, 12 NC, 16 NC, 17 NC, 18 NC, 19 NC

## TPS7330QD
designator U?
Single Output LDO, 500 mA, Fixed 3 V Output, 3.5 to 10 V Input, with Integrated SVS, 8-pin SOIC (D), -40 to 125 degC, Green (RoHS & no Sb/Br); Manufacturer: Texas Instruments; PartNumber: TPS7330QD; Fixed Output Options(V): 3; Iout(Max)(A): 0.5; Iq(Typ)(mA): 0.3; SubFamily: Single Channel LDO; Vdo(Typ)(mV): 270; Vin(Max)(V): 10; Vin(Min)(V): 3.5; DatasheetVersion: SLVS124F; PackageVersion: 4040047-3/M; PackageReference: D8; PackageDescription: 8-Pin Plastic Small Outline, Body 4.9 x 3.9 mm, Pitch 1.27 mm; Supplier 1: Digi-Key; Supplier Part Number 1: 296-2662-5-ND; Supplier 2: Newark; Supplier Part Number 2: 35K1339; Supplier 3: Mouser; Supplier Part Number 3: 595-TPS7330QD; Eco-Plan: Green (RoHS & no Sb/Br); Vout Adj(Max)(V): 3; Vout Adj(Min)(V): 3; Mounting Technology: Surface Mount; Code_JEDEC: MS-012; ComponentLink1Description: Manufacturer URL; ComponentLink1URL: http://www.ti.com/; ComponentLink2Description: Datasheet; ComponentLink2URL: http://www.ti.com/general/docs/lit/getliterature.tsp?genericPartNumber=TPS7330&fileType=pdf; ComponentLink3Description: Package Specification; ComponentLink3URL: http://www.ti.com/litv/pdf/msoi002j
footprint TI-D8_N (SOIC, 8-Leads, Body 4.9x3.9mm, Pitch 1.27mm, IPC Medium Density)
footprint TI-D8_L (SOIC, 8-Leads, Body 4.9x3.9mm, Pitch 1.27mm, IPC High Density)
footprint TI-D8_M (SOIC, 8-Leads, Body 4.9x3.9mm, Pitch 1.27mm, IPC Low Density)
pins: 1 GND (power), 2 ~{EN} (in), 3 IN (power), 4 IN (power), 5 OUT (power), 6 OUT (power), 7 SENSE (in), 8 ~{RESET} (hiz)

## TPS7330QDG4
designator U?
Single Output LDO, 500 mA, Fixed 3 V Output, 3.5 to 10 V Input, with Integrated SVS, 8-pin SOIC (D), -40 to 125 degC, Green (RoHS & no Sb/Br); Manufacturer: Texas Instruments; PartNumber: TPS7330QDG4; Fixed Output Options(V): 3; Iout(Max)(A): 0.5; Iq(Typ)(mA): 0.3; SubFamily: Single Channel LDO; Vdo(Typ)(mV): 270; Vin(Max)(V): 10; Vin(Min)(V): 3.5; DatasheetVersion: SLVS124F; PackageVersion: 4040047-3/M; PackageReference: D8; PackageDescription: 8-Pin Plastic Small Outline, Body 4.9 x 3.9 mm, Pitch 1.27 mm; Supplier 1: Digi-Key; Supplier Part Number 1: TPS7330QDG4-ND; Supplier 2: Mouser; Supplier Part Number 2: 595-TPS7330QDG4; Eco-Plan: Green (RoHS & no Sb/Br); Vout Adj(Max)(V): 3; Vout Adj(Min)(V): 3; Mounting Technology: Surface Mount; Code_JEDEC: MS-012; ComponentLink1Description: Manufacturer URL; ComponentLink1URL: http://www.ti.com/; ComponentLink2Description: Datasheet; ComponentLink2URL: http://www.ti.com/general/docs/lit/getliterature.tsp?genericPartNumber=TPS7330&fileType=pdf; ComponentLink3Description: Package Specification; ComponentLink3URL: http://www.ti.com/litv/pdf/msoi002j
footprint TI-D8_N (SOIC, 8-Leads, Body 4.9x3.9mm, Pitch 1.27mm, IPC Medium Density)
footprint TI-D8_L (SOIC, 8-Leads, Body 4.9x3.9mm, Pitch 1.27mm, IPC High Density)
footprint TI-D8_M (SOIC, 8-Leads, Body 4.9x3.9mm, Pitch 1.27mm, IPC Low Density)
pins: 1 GND (power), 2 ~{EN} (in), 3 IN (power), 4 IN (power), 5 OUT (power), 6 OUT (power), 7 SENSE (in), 8 ~{RESET} (hiz)

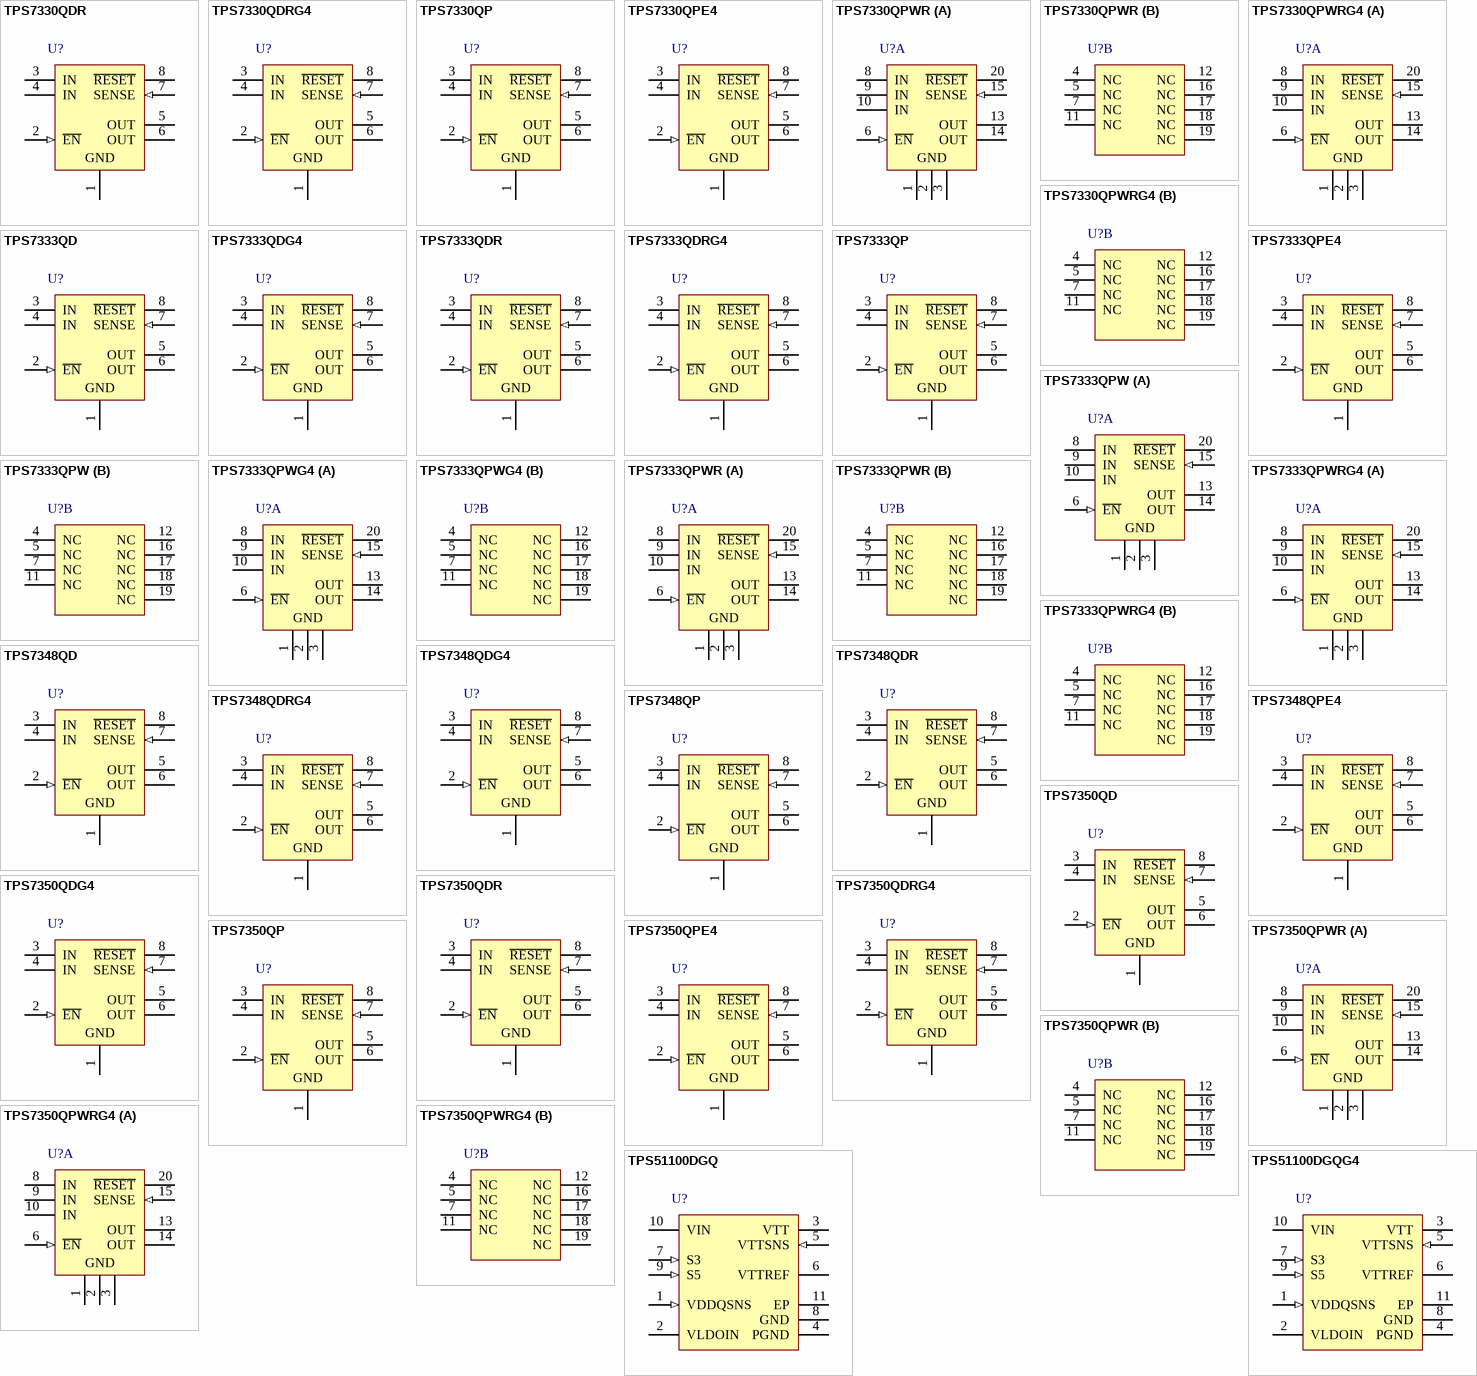
[diagram p8: symbols TPS7330QDR to TPS51100DGQG4]

## TPS7330QDR
designator U?
Single Output LDO, 500 mA, Fixed 3 V Output, 3.5 to 10 V Input, with Integrated SVS, 8-pin SOIC (D), -40 to 125 degC, Green (RoHS & no Sb/Br); Manufacturer: Texas Instruments; PartNumber: TPS7330QDR; Fixed Output Options(V): 3; Iout(Max)(A): 0.5; Iq(Typ)(mA): 0.3; SubFamily: Single Channel LDO; Vdo(Typ)(mV): 270; Vin(Max)(V): 10; Vin(Min)(V): 3.5; DatasheetVersion: SLVS124F; PackageVersion: 4040047-3/M; PackageReference: D8; PackageDescription: 8-Pin Plastic Small Outline, Body 4.9 x 3.9 mm, Pitch 1.27 mm; Supplier 1: Digi-Key; Supplier Part Number 1: 296-2662-2-ND; Supplier 2: Digi-Key; Supplier Part Number 2: 296-2662-1-ND; Supplier 3: Digi-Key; Supplier Part Number 3: 296-2662-6-ND; Supplier 4: Mouser; Supplier Part Number 4: 595-TPS7330QDR; Eco-Plan: Green (RoHS & no Sb/Br); Vout Adj(Max)(V): 3; Vout Adj(Min)(V): 3; Mounting Technology: Surface Mount; Code_JEDEC: MS-012; ComponentLink1Description: Manufacturer URL; ComponentLink1URL: http://www.ti.com/; ComponentLink2Description: Datasheet; ComponentLink2URL: http://www.ti.com/general/docs/lit/getliterature.tsp?genericPartNumber=TPS7330&fileType=pdf; ComponentLink3Description: Package Specification; ComponentLink3URL: http://www.ti.com/litv/pdf/msoi002j
footprint TI-D8_N (SOIC, 8-Leads, Body 4.9x3.9mm, Pitch 1.27mm, IPC Medium Density)
footprint TI-D8_L (SOIC, 8-Leads, Body 4.9x3.9mm, Pitch 1.27mm, IPC High Density)
footprint TI-D8_M (SOIC, 8-Leads, Body 4.9x3.9mm, Pitch 1.27mm, IPC Low Density)
pins: 1 GND (power), 2 ~{EN} (in), 3 IN (power), 4 IN (power), 5 OUT (power), 6 OUT (power), 7 SENSE (in), 8 ~{RESET} (hiz)

## TPS7330QDRG4
designator U?
Single Output LDO, 500 mA, Fixed 3 V Output, 3.5 to 10 V Input, with Integrated SVS, 8-pin SOIC (D), -40 to 125 degC, Green (RoHS & no Sb/Br); Manufacturer: Texas Instruments; PartNumber: TPS7330QDRG4; Fixed Output Options(V): 3; Iout(Max)(A): 0.5; Iq(Typ)(mA): 0.3; SubFamily: Single Channel LDO; Vdo(Typ)(mV): 270; Vin(Max)(V): 10; Vin(Min)(V): 3.5; DatasheetVersion: SLVS124F; PackageVersion: 4040047-3/M; PackageReference: D8; PackageDescription: 8-Pin Plastic Small Outline, Body 4.9 x 3.9 mm, Pitch 1.27 mm; Supplier 1: Digi-Key; Supplier Part Number 1: TPS7330QDRG4-ND; Supplier 2: Mouser; Supplier Part Number 2: 595-TPS7330QDRG4; Eco-Plan: Green (RoHS & no Sb/Br); Vout Adj(Max)(V): 3; Vout Adj(Min)(V): 3; Mounting Technology: Surface Mount; Code_JEDEC: MS-012; ComponentLink1Description: Manufacturer URL; ComponentLink1URL: http://www.ti.com/; ComponentLink2Description: Datasheet; ComponentLink2URL: http://www.ti.com/general/docs/lit/getliterature.tsp?genericPartNumber=TPS7330&fileType=pdf; ComponentLink3Description: Package Specification; ComponentLink3URL: http://www.ti.com/litv/pdf/msoi002j
footprint TI-D8_N (SOIC, 8-Leads, Body 4.9x3.9mm, Pitch 1.27mm, IPC Medium Density)
footprint TI-D8_L (SOIC, 8-Leads, Body 4.9x3.9mm, Pitch 1.27mm, IPC High Density)
footprint TI-D8_M (SOIC, 8-Leads, Body 4.9x3.9mm, Pitch 1.27mm, IPC Low Density)
pins: 1 GND (power), 2 ~{EN} (in), 3 IN (power), 4 IN (power), 5 OUT (power), 6 OUT (power), 7 SENSE (in), 8 ~{RESET} (hiz)

## TPS7330QP
designator U?
Single Output LDO, 500 mA, Fixed 3 V Output, 3.5 to 10 V Input, with Integrated SVS, 8-pin PDIP (P), -40 to 125 degC, Pb-Free (RoHS); Manufacturer: Texas Instruments; PartNumber: TPS7330QP; Fixed Output Options(V): 3; Iout(Max)(A): 0.5; Iq(Typ)(mA): 0.3; SubFamily: Single Channel LDO; Vdo(Typ)(mV): 270; Vin(Max)(V): 10; Vin(Min)(V): 3.5; DatasheetVersion: SLVS124F; PackageVersion: 4040082/E; PackageReference: P8; PackageDescription: 8-Pin Plastic In-Line, Body 9.59 x 6.35 mm, 2.54 mm Pitch; Supplier 1: Digi-Key; Supplier Part Number 1: 296-8064-5-ND; Supplier 2: Newark; Supplier Part Number 2: 77C0878; Supplier 3: Mouser; Supplier Part Number 3: 595-TPS7330QP; Eco-Plan: Pb-Free (RoHS); Vout Adj(Max)(V): 3; Vout Adj(Min)(V): 3; Mounting Technology: Through Hole; Code_JEDEC: MS-001; ComponentLink1Description: Manufacturer URL; ComponentLink1URL: http://www.ti.com/; ComponentLink2Description: Datasheet; ComponentLink2URL: http://www.ti.com/general/docs/lit/getliterature.tsp?genericPartNumber=TPS7330&fileType=pdf; ComponentLink3Description: Package Specification; ComponentLink3URL: http://www.ti.com/litv/pdf/mpdi001b
footprint TI-P8 (DIP, 8-Leads, Body 9.59x6.35mm, Pitch 2.54mm)
pins: 1 GND (power), 2 ~{EN} (in), 3 IN (power), 4 IN (power), 5 OUT (power), 6 OUT (power), 7 SENSE (in), 8 ~{RESET} (hiz)

## TPS7330QPE4
designator U?
Single Output LDO, 500 mA, Fixed 3 V Output, 3.5 to 10 V Input, with Integrated SVS, 8-pin PDIP (P), -40 to 125 degC, Pb-Free (RoHS); Manufacturer: Texas Instruments; PartNumber: TPS7330QPE4; Fixed Output Options(V): 3; Iout(Max)(A): 0.5; Iq(Typ)(mA): 0.3; SubFamily: Single Channel LDO; Vdo(Typ)(mV): 270; Vin(Max)(V): 10; Vin(Min)(V): 3.5; DatasheetVersion: SLVS124F; PackageVersion: 4040082/E; PackageReference: P8; PackageDescription: 8-Pin Plastic In-Line, Body 9.59 x 6.35 mm, 2.54 mm Pitch; Supplier 1: Digi-Key; Supplier Part Number 1: TPS7330QPE4-ND; Supplier 2: Mouser; Supplier Part Number 2: 595-TPS7330QPE4; Eco-Plan: Pb-Free (RoHS); Vout Adj(Max)(V): 3; Vout Adj(Min)(V): 3; Mounting Technology: Through Hole; Code_JEDEC: MS-001; ComponentLink1Description: Manufacturer URL; ComponentLink1URL: http://www.ti.com/; ComponentLink2Description: Datasheet; ComponentLink2URL: http://www.ti.com/general/docs/lit/getliterature.tsp?genericPartNumber=TPS7330&fileType=pdf; ComponentLink3Description: Package Specification; ComponentLink3URL: http://www.ti.com/litv/pdf/mpdi001b
footprint TI-P8 (DIP, 8-Leads, Body 9.59x6.35mm, Pitch 2.54mm)
pins: 1 GND (power), 2 ~{EN} (in), 3 IN (power), 4 IN (power), 5 OUT (power), 6 OUT (power), 7 SENSE (in), 8 ~{RESET} (hiz)

## TPS7330QPWR
designator U?
Single Output LDO, 500 mA, Fixed 3 V Output, 3.5 to 10 V Input, with Integrated SVS, 20-pin TSSOP (PW), -40 to 125 degC, Green (RoHS & no Sb/Br); Manufacturer: Texas Instruments; PartNumber: TPS7330QPWR; Fixed Output Options(V): 3; Iout(Max)(A): 0.5; Iq(Typ)(mA): 0.3; SubFamily: Single Channel LDO; Vdo(Typ)(mV): 270; Vin(Max)(V): 10; Vin(Min)(V): 3.5; DatasheetVersion: SLVS124F; PackageVersion: 4040064-5/G; PackageReference: PW20; PackageDescription: 20-Pin Plastic Small Outline, Body 6.5 x 4.4 mm, 0.65 mm Pitch; Supplier 1: Digi-Key; Supplier Part Number 1: 296-8065-2-ND; Supplier 2: Digi-Key; Supplier Part Number 2: 296-8065-1-ND; Supplier 3: Digi-Key; Supplier Part Number 3: 296-8065-6-ND; Supplier 4: Mouser; Supplier Part Number 4: 595-TPS7330QPWR; Eco-Plan: Green (RoHS & no Sb/Br); Vout Adj(Max)(V): 3; Vout Adj(Min)(V): 3; Mounting Technology: Surface Mount; Code_JEDEC: MO-153; ComponentLink1Description: Manufacturer URL; ComponentLink1URL: http://www.ti.com/; ComponentLink2Description: Datasheet; ComponentLink2URL: http://www.ti.com/general/docs/lit/getliterature.tsp?genericPartNumber=TPS7330&fileType=pdf; ComponentLink3Description: Package Specification; ComponentLink3URL: http://www.ti.com.cn/cn/lit/ml/mpds362/mpds362.pdf
footprint TI-PW20_N (SOP, 20-Leads, Body 6.5x4.4mm, Pitch 0.65mm, IPC Medium Density)
footprint TI-PW20_L (SOP, 20-Leads, Body 6.5x4.4mm, Pitch 0.65mm, IPC High Density)
footprint TI-PW20_M (SOP, 20-Leads, Body 6.5x4.4mm, Pitch 0.65mm, IPC Low Density)
part A pins: 1 GND (power), 2 GND (power), 3 GND (power), 6 ~{EN} (in), 8 IN (power), 9 IN (power), 10 IN (power), 13 OUT (power), 14 OUT (power), 15 SENSE (in), 20 ~{RESET} (hiz)
part B pins: 4 NC, 5 NC, 7 NC, 11 NC, 12 NC, 16 NC, 17 NC, 18 NC, 19 NC

## TPS7330QPWRG4
designator U?
Single Output LDO, 500 mA, Fixed 3 V Output, 3.5 to 10 V Input, with Integrated SVS, 20-pin TSSOP (PW), -40 to 125 degC, Green (RoHS & no Sb/Br); Manufacturer: Texas Instruments; PartNumber: TPS7330QPWRG4; Fixed Output Options(V): 3; Iout(Max)(A): 0.5; Iq(Typ)(mA): 0.3; SubFamily: Single Channel LDO; Vdo(Typ)(mV): 270; Vin(Max)(V): 10; Vin(Min)(V): 3.5; DatasheetVersion: SLVS124F; PackageVersion: 4040064-5/G; PackageReference: PW20; PackageDescription: 20-Pin Plastic Small Outline, Body 6.5 x 4.4 mm, 0.65 mm Pitch; Supplier 1: Digi-Key; Supplier Part Number 1: TPS7330QPWRG4-ND; Supplier 2: Mouser; Supplier Part Number 2: 595-TPS7330QPWRG4; Eco-Plan: Green (RoHS & no Sb/Br); Vout Adj(Max)(V): 3; Vout Adj(Min)(V): 3; Mounting Technology: Surface Mount; Code_JEDEC: MO-153; ComponentLink1Description: Manufacturer URL; ComponentLink1URL: http://www.ti.com/; ComponentLink2Description: Datasheet; ComponentLink2URL: http://www.ti.com/general/docs/lit/getliterature.tsp?genericPartNumber=TPS7330&fileType=pdf; ComponentLink3Description: Package Specification; ComponentLink3URL: http://www.ti.com.cn/cn/lit/ml/mpds362/mpds362.pdf
footprint TI-PW20_N (SOP, 20-Leads, Body 6.5x4.4mm, Pitch 0.65mm, IPC Medium Density)
footprint TI-PW20_L (SOP, 20-Leads, Body 6.5x4.4mm, Pitch 0.65mm, IPC High Density)
footprint TI-PW20_M (SOP, 20-Leads, Body 6.5x4.4mm, Pitch 0.65mm, IPC Low Density)
part A pins: 1 GND (power), 2 GND (power), 3 GND (power), 6 ~{EN} (in), 8 IN (power), 9 IN (power), 10 IN (power), 13 OUT (power), 14 OUT (power), 15 SENSE (in), 20 ~{RESET} (hiz)
part B pins: 4 NC, 5 NC, 7 NC, 11 NC, 12 NC, 16 NC, 17 NC, 18 NC, 19 NC

## TPS7333QD
designator U?
Single Output LDO, 500 mA, Fixed 3.3 V Output, 3.7 to 10 V Input, with Integrated SVS, 8-pin SOIC (D), -40 to 125 degC, Green (RoHS & no Sb/Br); Manufacturer: Texas Instruments; PartNumber: TPS7333QD; Accuracy(%): 2; Fixed Output Options(V): 3.3; Iout(Max)(A): 0.5; Iq(Typ)(mA): 0.3; SubFamily: Single Channel LDO; Vdo(Typ)(mV): 270; Vin(Max)(V): 10; Vin(Min)(V): 3.77; DatasheetVersion: SLVS124F; PackageVersion: 4040047-3/M; PackageReference: D8; PackageDescription: 8-Pin Plastic Small Outline, Body 4.9 x 3.9 mm, Pitch 1.27 mm; Supplier 1: Digi-Key; Supplier Part Number 1: 296-8066-5-ND; Supplier 2: Newark; Supplier Part Number 2: 52F2803; Supplier 3: Mouser; Supplier Part Number 3: 595-TPS7333QD; Eco-Plan: Green (RoHS & no Sb/Br); Vout Adj(Max)(V): 3.3; Vout Adj(Min)(V): 3.3; Mounting Technology: Surface Mount; Code_JEDEC: MS-012; ComponentLink1Description: Manufacturer URL; ComponentLink1URL: http://www.ti.com/; ComponentLink2Description: Datasheet; ComponentLink2URL: http://www.ti.com/general/docs/lit/getliterature.tsp?genericPartNumber=TPS7333&fileType=pdf; ComponentLink3Description: Package Specification; ComponentLink3URL: http://www.ti.com/litv/pdf/msoi002j
footprint TI-D8_N (SOIC, 8-Leads, Body 4.9x3.9mm, Pitch 1.27mm, IPC Medium Density)
footprint TI-D8_L (SOIC, 8-Leads, Body 4.9x3.9mm, Pitch 1.27mm, IPC High Density)
footprint TI-D8_M (SOIC, 8-Leads, Body 4.9x3.9mm, Pitch 1.27mm, IPC Low Density)
pins: 1 GND (power), 2 ~{EN} (in), 3 IN (power), 4 IN (power), 5 OUT (power), 6 OUT (power), 7 SENSE (in), 8 ~{RESET} (oc)

## TPS7333QDG4
designator U?
Single Output LDO, 500 mA, Fixed 3.3 V Output, 3.7 to 10 V Input, with Integrated SVS, 8-pin SOIC (D), -40 to 125 degC, Green (RoHS & no Sb/Br); Manufacturer: Texas Instruments; PartNumber: TPS7333QDG4; Accuracy(%): 2; Fixed Output Options(V): 3.3; Iout(Max)(A): 0.5; Iq(Typ)(mA): 0.3; SubFamily: Single Channel LDO; Vdo(Typ)(mV): 270; Vin(Max)(V): 10; Vin(Min)(V): 3.77; DatasheetVersion: SLVS124F; PackageVersion: 4040047-3/M; PackageReference: D8; PackageDescription: 8-Pin Plastic Small Outline, Body 4.9 x 3.9 mm, Pitch 1.27 mm; Supplier 1: Digi-Key; Supplier Part Number 1: TPS7333QDG4-ND; Supplier 2: Newark; Supplier Part Number 2: 54K1803; Supplier 3: Mouser; Supplier Part Number 3: 595-TPS7333QDG4; Eco-Plan: Green (RoHS & no Sb/Br); Vout Adj(Max)(V): 3.3; Vout Adj(Min)(V): 3.3; Mounting Technology: Surface Mount; Code_JEDEC: MS-012; ComponentLink1Description: Manufacturer URL; ComponentLink1URL: http://www.ti.com/; ComponentLink2Description: Datasheet; ComponentLink2URL: http://www.ti.com/general/docs/lit/getliterature.tsp?genericPartNumber=TPS7333&fileType=pdf; ComponentLink3Description: Package Specification; ComponentLink3URL: http://www.ti.com/litv/pdf/msoi002j
footprint TI-D8_N (SOIC, 8-Leads, Body 4.9x3.9mm, Pitch 1.27mm, IPC Medium Density)
footprint TI-D8_L (SOIC, 8-Leads, Body 4.9x3.9mm, Pitch 1.27mm, IPC High Density)
footprint TI-D8_M (SOIC, 8-Leads, Body 4.9x3.9mm, Pitch 1.27mm, IPC Low Density)
pins: 1 GND (power), 2 ~{EN} (in), 3 IN (power), 4 IN (power), 5 OUT (power), 6 OUT (power), 7 SENSE (in), 8 ~{RESET} (oc)

## TPS7333QDR
designator U?
Single Output LDO, 500 mA, Fixed 3.3 V Output, 3.7 to 10 V Input, with Integrated SVS, 8-pin SOIC (D), -40 to 125 degC, Green (RoHS & no Sb/Br); Manufacturer: Texas Instruments; PartNumber: TPS7333QDR; Accuracy(%): 2; Fixed Output Options(V): 3.3; Iout(Max)(A): 0.5; Iq(Typ)(mA): 0.3; SubFamily: Single Channel LDO; Vdo(Typ)(mV): 270; Vin(Max)(V): 10; Vin(Min)(V): 3.77; DatasheetVersion: SLVS124F; PackageVersion: 4040047-3/M; PackageReference: D8; PackageDescription: 8-Pin Plastic Small Outline, Body 4.9 x 3.9 mm, Pitch 1.27 mm; Supplier 1: Digi-Key; Supplier Part Number 1: 296-8066-2-ND; Supplier 2: Digi-Key; Supplier Part Number 2: 296-8066-1-ND; Supplier 3: Digi-Key; Supplier Part Number 3: 296-8066-6-ND; Supplier 4: Newark; Supplier Part Number 4: 77C0880; Supplier 5: Mouser; Supplier Part Number 5: 595-TPS7333QDR; Eco-Plan: Green (RoHS & no Sb/Br); Vout Adj(Max)(V): 3.3; Vout Adj(Min)(V): 3.3; Mounting Technology: Surface Mount; Code_JEDEC: MS-012; ComponentLink1Description: Manufacturer URL; ComponentLink1URL: http://www.ti.com/; ComponentLink2Description: Datasheet; ComponentLink2URL: http://www.ti.com/general/docs/lit/getliterature.tsp?genericPartNumber=TPS7333&fileType=pdf; ComponentLink3Description: Package Specification; ComponentLink3URL: http://www.ti.com/litv/pdf/msoi002j
footprint TI-D8_N (SOIC, 8-Leads, Body 4.9x3.9mm, Pitch 1.27mm, IPC Medium Density)
footprint TI-D8_L (SOIC, 8-Leads, Body 4.9x3.9mm, Pitch 1.27mm, IPC High Density)
footprint TI-D8_M (SOIC, 8-Leads, Body 4.9x3.9mm, Pitch 1.27mm, IPC Low Density)
pins: 1 GND (power), 2 ~{EN} (in), 3 IN (power), 4 IN (power), 5 OUT (power), 6 OUT (power), 7 SENSE (in), 8 ~{RESET} (oc)